# Altium schematic symbol library GOST.SchLib: 7 symbols
Pins are listed as number, name and electrical type; pins without a type are passive.

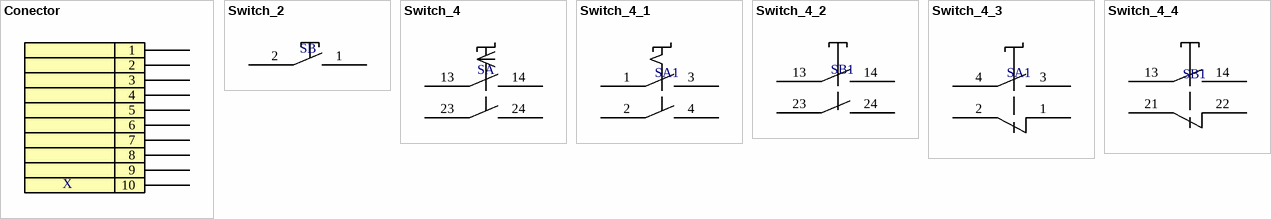
[diagram p0: symbols Conector to Switch_4_4]

## Conector
designator X  (value not drawn)
pins: 1, 2, 3, 4, 5, 6, 7, 8, 9, 10

## Switch_2
designator SB  (value not drawn)
pins: 1, 2

## Switch_4
designator SA  (value not drawn)
pins: 13, 14, 23, 24

## Switch_4_1
designator SA1  (value not drawn)
pins: 1, 2, 3, 4

## Switch_4_2
designator SB1  (value not drawn)
pins: 13, 14, 23, 24

## Switch_4_3
designator SA1  (value not drawn)
pins: 1, 2, 3, 4

## Switch_4_4
designator SB1  (value not drawn)
pins: 13, 14, 21, 22